# Altium schematic symbol library FPGA_Xilinx.SchLib: 34 symbols (part 2 of 2)
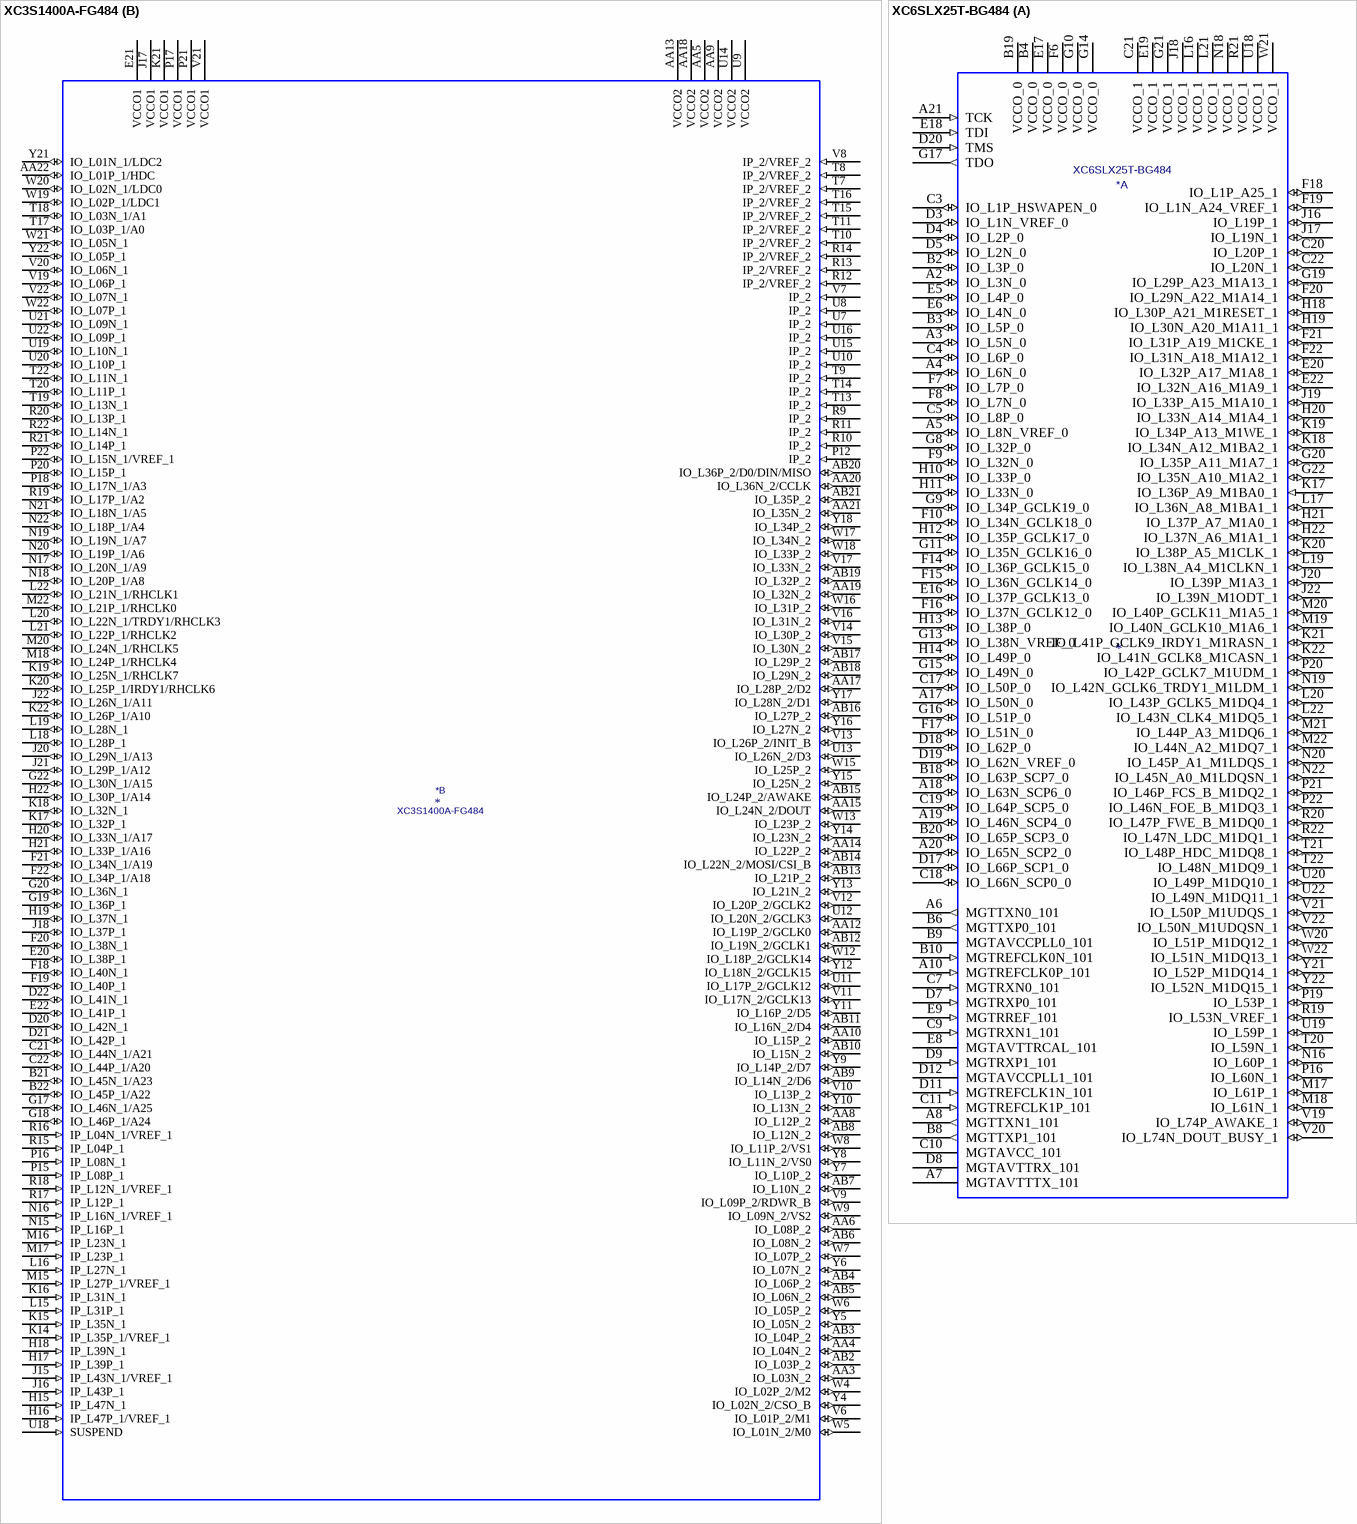
[diagram p12: symbols XC3S1400A-FG484 to XC6SLX25T-BG484]

## XC3S1400A-FG484
designator *  value XC3S1400A-FG484
ki_fp_filters: BGA484
part A pins: A1 GND (power), A2 IO_L36N_0/PUDC_B (io), A3 IO_L33P_0 (io), A4 IO_L31P_0 (io), A5 IO_L28N_0 (io), A6 IO_L26N_0 (io), A7 IO_L26P_0 (io), A8 IO_L22N_0 (io), A9 IO_L22P_0 (io), A10 IO_L21P_0 (io), A11 IO_L18N_0/GCLK7 (io), A12 IO_L18P_0/GCLK6 (io), A13 IO_L16N_0 (io), A14 IO_L13N_0 (io), A15 IO_L12N_0/VREF_0 (io), A16 IO_L12P_0 (io), A17 IO_L10N_0 (io), A18 IO_L05N_0 (io), A19 IO_L06N_0 (io), A20 IO_L03N_0 (io), A21 TCK (in), A22 GND (power), AA1 IO_L45P_3 (io), AA2 IO_L45N_3 (io), AA7 GND (power), AA11 GND (power), AA16 GND (power), AB1 GND (power), AB22 GND (power), B1 IO_L02P_3 (io), B2 IO_L36P_0/VREF_0 (io), B3 IO_L33N_0 (io), B4 IO_L31N_0 (io), B5 VCCO0 (power), B6 IO_L28P_0 (io), B7 GND (power), B8 IO_L25P_0 (io), B9 IO_L24P_0 (io), B10 VCCO0 (power), B11 IO_L19P_0/GCLK8 (io), B12 GND (power), B13 IO_L16P_0 (io), B14 VCCO0 (power), B15 IO_L13P_0 (io), B16 GND (power), B17 IO_L10P_0 (io), B18 VCCO0 (power), B19 IO_L06P_0/VREF_0 (io), B20 IO_L03P_0 (io), C1 IO_L01P_3 (io), C2 IO_L02N_3 (io), C3 GND (power), C4 PROG_B (io), C5 IO_L32P_0 (io), C6 IO_L29P_0 (io), C7 IO_L27N_0 (io), C8 IO_L25N_0 (io), C9 IO_L24N_0/VREF_0 (io), C10 IO_L21N_0 (io), C11 IO_L19N_0/GCLK9 (io), C12 IO_L17P_0/GCLK4 (io), C13 IO_L15N_0 (io), C14 IO_L09P_0 (io), C15 IO_L11N_0 (io), C16 IO_L08N_0 (io), C17 IO_L07N_0 (io), C18 IO_L05P_0 (io), C19 IO_L02N_0 (io), C20 GND (power), D1 IO_L06P_3 (io), D2 IO_L01N_3 (io), D3 IO_L03P_3 (io), D4 TMS (in), D5 IO_L32N_0 (io), D6 IO_L29N_0 (io), D7 IO_L27P_0 (io), D8 IO_L30N_0 (io), D9 GND (power), D10 IO_L23P_0 (io), D11 IO_L20P_0/GCLK10 (io), D12 VCCAUX (power), D13 IO_L15P_0 (io), D14 GND (power), D15 IO_L11P_0 (io), D16 IO_L08P_0 (io), D17 IO_L07P_0 (io), D18 IO_L01N_0 (io), D19 IO_L02P_0/VREF_0 (io), E1 IO_L06N_3 (io), E2 VCCO3, E3 IO_L07N_3 (io), E4 IO_L03N_3 (io), E5 VCCAUX (power), E6 IO_L35N_0 (io), E7 IO_L34P_0 (io), E8 IP_0 (in), E9 IO_L30P_0 (io), E10 IO_L23N_0 (io), E11 IO_L20N_0/GCLK11 (io), E12 IO_L17N_0/GCLK5 (io), E13 IO_L14N_0 (io), E14 IO_L09N_0 (io), E15 IO_L04P_0 (io), E16 IP_0 (in), E17 IO_L01P_0 (io), E18 VCCAUX (power), E19 TDO (out), F1 IO_L12N_3 (io), F2 IO_L12P_3 (io), F3 IO_L08P_3 (io), F4 IO_L07P_3 (io), F5 TDI (in), F6 GND (power), F7 IO_L35P_0 (io), F8 IO-L34N_0 (io), F9 VCCO0 (power), F10 IP_0 (in), F11 GND (power), F12 IP_0 (in), F13 IO_L14P_0 (io), F14 VCCO0 (power), F15 IO_L04N_0 (io), F16 IP_0 (in), F17 GND (power), G1 IO_L13N_3 (io), G2 GND (power), G3 IO_L13P_3 (io), G4 IO_L08N_3 (io), G5 IO_L05N_3 (io), G6 IO_L05P_3 (io), G7 IP_0 (in), G8 IP_0/VREF_0 (in), G9 IP_0 (in), G10 IP_0 (in), G11 IP_0 (in), G12 IP_0 (in), G13 IP_0 (in), G14 IP_0 (in), G15 IP_0 (in), G16 IP_0 (in), G21 GND (power), H1 IO_L16N_3 (io), H2 IO_L16P_3 (io), H3 IO_L14N_3 (io), H4 IO_L14P_3 (io), H5 IO_L09P_3 (io), H6 IO_L09N_3 (io), H7 IP_L04N_3/VREF_3 (in), H8 IP_L04P_3 (in), H9 IP_0/VREF_0 (in), H10 IP_0 (in), H11 VCCAUX (power), H12 IP_0/VREF_0 (in), H13 IP_0 (in), H14 IP_0 (in), J1 IO_L17N_3/VREF_3 (io), J2 VCCO3 (power), J3 IO_L17P_3 (io), J4 GND (power), J5 IO_L10N_3 (io), J6 VCCO3 (power), J7 IP_L11P_3 (in), J8 IP_3/VREF_3 (in), J9 GND (power), J10 VCCINT (power), J11 GND (power), J12 VCCINT (power), J13 GND (power), J14 GND (power), J19 GND (power), K1 IO_L22P_3/LHCLK2 (io), K2 IO_L20N_3 (io), K3 IO_L20P_3 (io), K4 IO_L18N_3 (io), K5 IO_L18P_3 (io), K6 IO_L10P_3 (io), K7 IP_L15P_3 (in), K8 IP_L11N_3 (in), K9 VCCINT (power), K10 GND (power), K11 VCCINT (power), K12 GND (power), K13 VCCINT (power), L1 IO_L22N_3/IRDY2/LHCLK3 (io), L2 GND (power), L3 IO_L21N_3/LHCLK1 (io), L4 VCCAUX (power), L5 IO_L21P_3/LHCLK0 (io), L6 GND (power), L7 IP_L19P_3 (in), L8 IP_L15N_3/VREF_3 (in), L9 GND (power), L10 VCCINT (power), L11 GND (power), L12 VCCINT (power), L13 GND (power), L14 VCCINT (power), L17 GND (power), M1 IO_L24P_3/LHCLK4 (io), M2 IO_L24N_3/LHCLK5 (io), M3 IO_L25P_3/TRDY2/LHCLK6 (io), M4 IO_L25N_3/LHCLK7 (io), M5 IO_L30P_3 (io), M6 IP_L23N_3 (in), M7 IP_L23P_3 (in), M8 IP_L19N_3 (in), M9 VCCINT (power), M10 GND (power), M11 VCCINT, M12 GND (power), M13 VCCINT (power), M14 GND (power), M19 VCCAUX (power), M21 GND (power), N1 IO_L26P_3/VREF_3 (io), N2 VCCO3 (power), N3 IO_L26N_3 (io), N4 IO_L30N_3 (io), N5 IP_L31N_3 (in), N6 IP_L31P_3 (in), N7 IP_L35P_3 (in), N8 IP_L27P_3 (in), N9 IP_L27N_3 (in), N10 VCCINT (power), N11 GND (power), N12 VCCINT (power), N13 GND (power), N14 VCCINT (power), P1 IO_L28P_3 (io), P2 IO_L28N_3 (io), P3 IO_L29P_3 (io), P4 GND (power), P5 IO_L29N_3 (io), P6 VCCO3 (power), P7 IP_L39P_3 (in), P8 IP_L35N_3 (in), P9 GND (power), P10 GND (power), P11 VCCAUX (power), P13 VCCINT (power), P14 GND (power), P19 GND (power), R1 IO_L32P_3 (io), R2 IO_L32N_3 (io), R3 IO_L33P_3 (io), R4 IO_L33N_3 (io), R5 IO_L34P_3 (io), R6 IP_3/VREF_3 (in), R7 IP_L46P_3 (in), R8 IP_L39N_3 (in), T1 IO_L36P_3/VREF_3 (in), T2 GND (power), T3 IO_L36N_3 (io), T4 IO_L34N_3 (io), T5 IO_L40P_3 (io), T6 IP_L46N_3/VREF_3 (in), T12 GND (power), T21 GND (power), U1 IO_L37P_3 (io), U2 IO_L37N_3 (io), U3 IO_L41P_3 (io), U4 IO_L41N_3 (io), U5 IO_L40N_3 (io), U6 GND (power), U17 GND (power), V1 IO_L38P_3 (io), V2 VCCO3 (power), V3 IO_L38N_3 (io), V4 IO_L43P_3 (io), V5 VCCAUX (power), V18 VCCAUX (power), W1 IO_L42P_3 (io), W2 IO_L42N_3 (io), W3 IO_L43N_3 (io), W10 GND (power), W11 VCCAUX (power), W14 GND (power), Y1 IO_L44P_3 (io), Y2 IO_L44N_3 (io), Y3 GND (power), Y19 DONE (io), Y20 GND (power)
part B pins: AA3 IO_L03N_2 (io), AA4 IO_L04N_2 (io), AA5 VCCO2 (power), AA6 IO_L08P_2 (io), AA8 IO_L12P_2 (io), AA9 VCCO2 (power), AA10 IO_L15P_2 (io), AA12 IO_L19P_2/GCLK0 (io), AA13 VCCO2 (power), AA14 IO_L22P_2 (io), AA15 IO_L24N_2/DOUT (io), AA17 IO_L28P_2/D2 (io), AA18 VCCO2 (power), AA19 IO_L32N_2 (io), AA20 IO_L36N_2/CCLK (io), AA21 IO_L35N_2 (io), AA22 IO_L01P_1/HDC (io), AB2 IO_L03P_2 (io), AB3 IO_L04P_2 (io), AB4 IO_L06P_2 (io), AB5 IO_L06N_2 (io), AB6 IO_L08N_2 (io), AB7 IO_L10N_2 (io), AB8 IO_L12N_2 (io), AB9 IO_L14N_2/D6 (io), AB10 IO_L15N_2 (io), AB11 IO_L16N_2/D4 (io), AB12 IO_L19N_2/GCLK1 (io), AB13 IO_L21P_2 (io), AB14 IO_L22N_2/MOSI/CSI_B (io), AB15 IO_L24P_2/AWAKE (io), AB16 IO_L27P_2 (io), AB17 IO_L29P_2 (io), AB18 IO_L29N_2 (io), AB19 IO_L32P_2 (io), AB20 IO_L36P_2/D0/DIN/MISO (io), AB21 IO_L35P_2 (io), B21 IO_L45N_1/A23 (io), B22 IO_L45P_1/A22 (io), C21 IO_L44N_1/A21 (io), C22 IO_L44P_1/A20 (io), D20 IO_L42N_1 (io), D21 IO_L42P_1 (io), D22 IO_L41N_1 (io), E20 IO_L38P_1 (io), E21 VCCO1 (power), E22 IO_L41P_1 (io), F18 IO_L40N_1 (io), F19 IO_L40P_1 (io), F20 IO_L38N_1 (io), F21 IO_L34N_1/A19 (io), F22 IO_L34P_1/A18 (io), G17 IO_L46N_1/A25 (io), G18 IO_L46P_1/A24 (io), G19 IO_L36P_1 (io), G20 IO_L36N_1 (io), G22 IO_L30N_1/A15 (io), H15 IP_L47N_1 (in), H16 IP_L47P_1/VREF_1 (in), H17 IP_L39P_1 (in), H18 IP_L39N_1 (in), H19 IO_L37N_1 (io), H20 IO_L33N_1/A17 (io), H21 IO_L33P_1/A16 (io), H22 IO_L30P_1/A14 (io), J15 IP_L43N_1/VREF_1 (in), J16 IP_L43P_1 (in), J17 VCCO1 (power), J18 IO_L37P_1 (io), J20 IO_L29N_1/A13 (io), J21 IO_L29P_1/A12 (io), J22 IO_L26N_1/A11 (io), K14 IP_L35P_1/VREF_1 (in), K15 IP_L35N_1 (in), K16 IP_L31N_1 (in), K17 IO_L32P_1 (io), K18 IO_L32N_1 (io), K19 IO_L25N_1/RHCLK7 (io), K20 IO_L25P_1/IRDY1/RHCLK6 (io), K21 VCCO1 (power), K22 IO_L26P_1/A10 (io), L15 IP_L31P_1 (in), L16 IP_L27N_1 (in), L18 IO_L28P_1 (io), L19 IO_L28N_1 (io), L20 IO_L22N_1/TRDY1/RHCLK3 (io), L21 IO_L22P_1/RHCLK2 (io), L22 IO_L21N_1/RHCLK1 (io), M15 IP_L27P_1/VREF_1 (in), M16 IP_L23N_1 (in), M17 IP_L23P_1 (in), M18 IO_L24P_1/RHCLK4 (io), M20 IO_L24N_1/RHCLK5 (io), M22 IO_L21P_1/RHCLK0 (io), N15 IP_L16P_1 (in), N16 IP_L16N_1/VREF_1 (in), N17 IO_L20N_1/A9 (io), N18 IO_L20P_1/A8 (io), N19 IO_L19N_1/A7 (io), N20 IO_L19P_1/A6 (io), N21 IO_L18N_1/A5 (io), N22 IO_L18P_1/A4 (io), P12 IP_2 (in), P15 IP_L08P_1 (in), P16 IP_L08N_1 (in), P17 VCCO1 (power), P18 IO_L17N_1/A3 (io), P20 IO_L15P_1 (io), P21 VCCO1 (power), P22 IO_L15N_1/VREF_1 (io), R9 IP_2 (in), R10 IP_2 (in), R11 IP_2 (in), R12 IP_2/VREF_2 (in), R13 IP_2/VREF_2 (in), R14 IP_2/VREF_2 (in), R15 IP_L04P_1 (in), R16 IP_L04N_1/VREF_1 (in), R17 IP_L12P_1 (in), R18 IP_L12N_1/VREF_1 (in), R19 IO_L17P_1/A2 (io), R20 IO_L13P_1 (io), R21 IO_L14P_1 (io), R22 IO_L14N_1 (io), T7 IP_2/VREF_2 (in), T8 IP_2/VREF_2 (in), T9 IP_2 (in), T10 IP_2/VREF_2 (in), T11 IP_2/VREF_2 (in), T13 IP_2 (in), T14 IP_2 (in), T15 IP_2/VREF_2 (in), T16 IP_2/VREF_2 (in), T17 IO_L03P_1/A0 (io), T18 IO_L03N_1/A1 (io), T19 IO_L13N_1 (io), T20 IO_L11P_1 (io), T22 IO_L11N_1 (io), U7 IP_2 (in), U8 IP_2 (in), U9 VCCO2 (power), U10 IP_2 (in), U11 IO_L17P_2/GCLK12 (io), U12 IO_L20N_2/GCLK3 (io), U13 IO_L26N_2/D3 (io), U14 VCCO2, U15 IP_2 (in), U16 IP_2 (in), U18 SUSPEND (in), U19 IO_L10N_1 (io), U20 IO_L10P_1 (io), U21 IO_L09N_1 (io), U22 IO_L09P_1 (io), V6 IO_L01P_2/M1 (io), V7 IP_2 (in), V8 IP_2/VREF_2 (in), V9 IO_L09P_2/RDWR_B (io), V10 IO_L13P_2 (io), V11 IO_L17N_2/GCLK13 (io), V12 IO_L20P_2/GCLK2 (io), V13 IO_L26P_2/INIT_B (io), V14 IO_L30P_2 (io), V15 IO_L30N_2 (io), V16 IO_L31N_2 (io), V17 IO_L33N_2 (io), V19 IO_L06P_1 (io), V20 IO_L06N_1 (io), V21 VCCO1 (power), V22 IO_L07N_1 (io), W4 IO_L02P_2/M2 (io), W5 IO_L01N_2/M0 (io), W6 IO_L05P_2 (io), W7 IO_L07P_2 (io), W8 IO_L11P_2/VS1 (io), W9 IO_L09N_2/VS2 (io), W12 IO_L18P_2/GCLK14 (io), W13 IO_L23P_2 (io), W15 IO_L25P_2 (io), W16 IO_L31P_2 (io), W17 IO_L34N_2 (io), W18 IO_L33P_2 (io), W19 IO_L02P_1/LDC1 (io), W20 IO_L02N_1/LDC0 (io), W21 IO_L05N_1 (io), W22 IO_L07P_1 (io), Y4 IO_L02N_2/CSO_B (io), Y5 IO_L05N_2 (io), Y6 IO_L07N_2 (io), Y7 IO_L10P_2 (io), Y8 IO_L11N_2/VS0 (io), Y9 IO_L14P_2/D7 (io), Y10 IO_L13N_2 (io), Y11 IO_L16P_2/D5 (io), Y12 IO_L18N_2/GCLK15 (io), Y13 IO_L21N_2 (io), Y14 IO_L23N_2 (io), Y15 IO_L25N_2 (io), Y16 IO_L27N_2 (io), Y17 IO_L28N_2/D1 (io), Y18 IO_L34P_2 (io), Y21 IO_L01N_1/LDC2 (io), Y22 IO_L05P_1 (io)

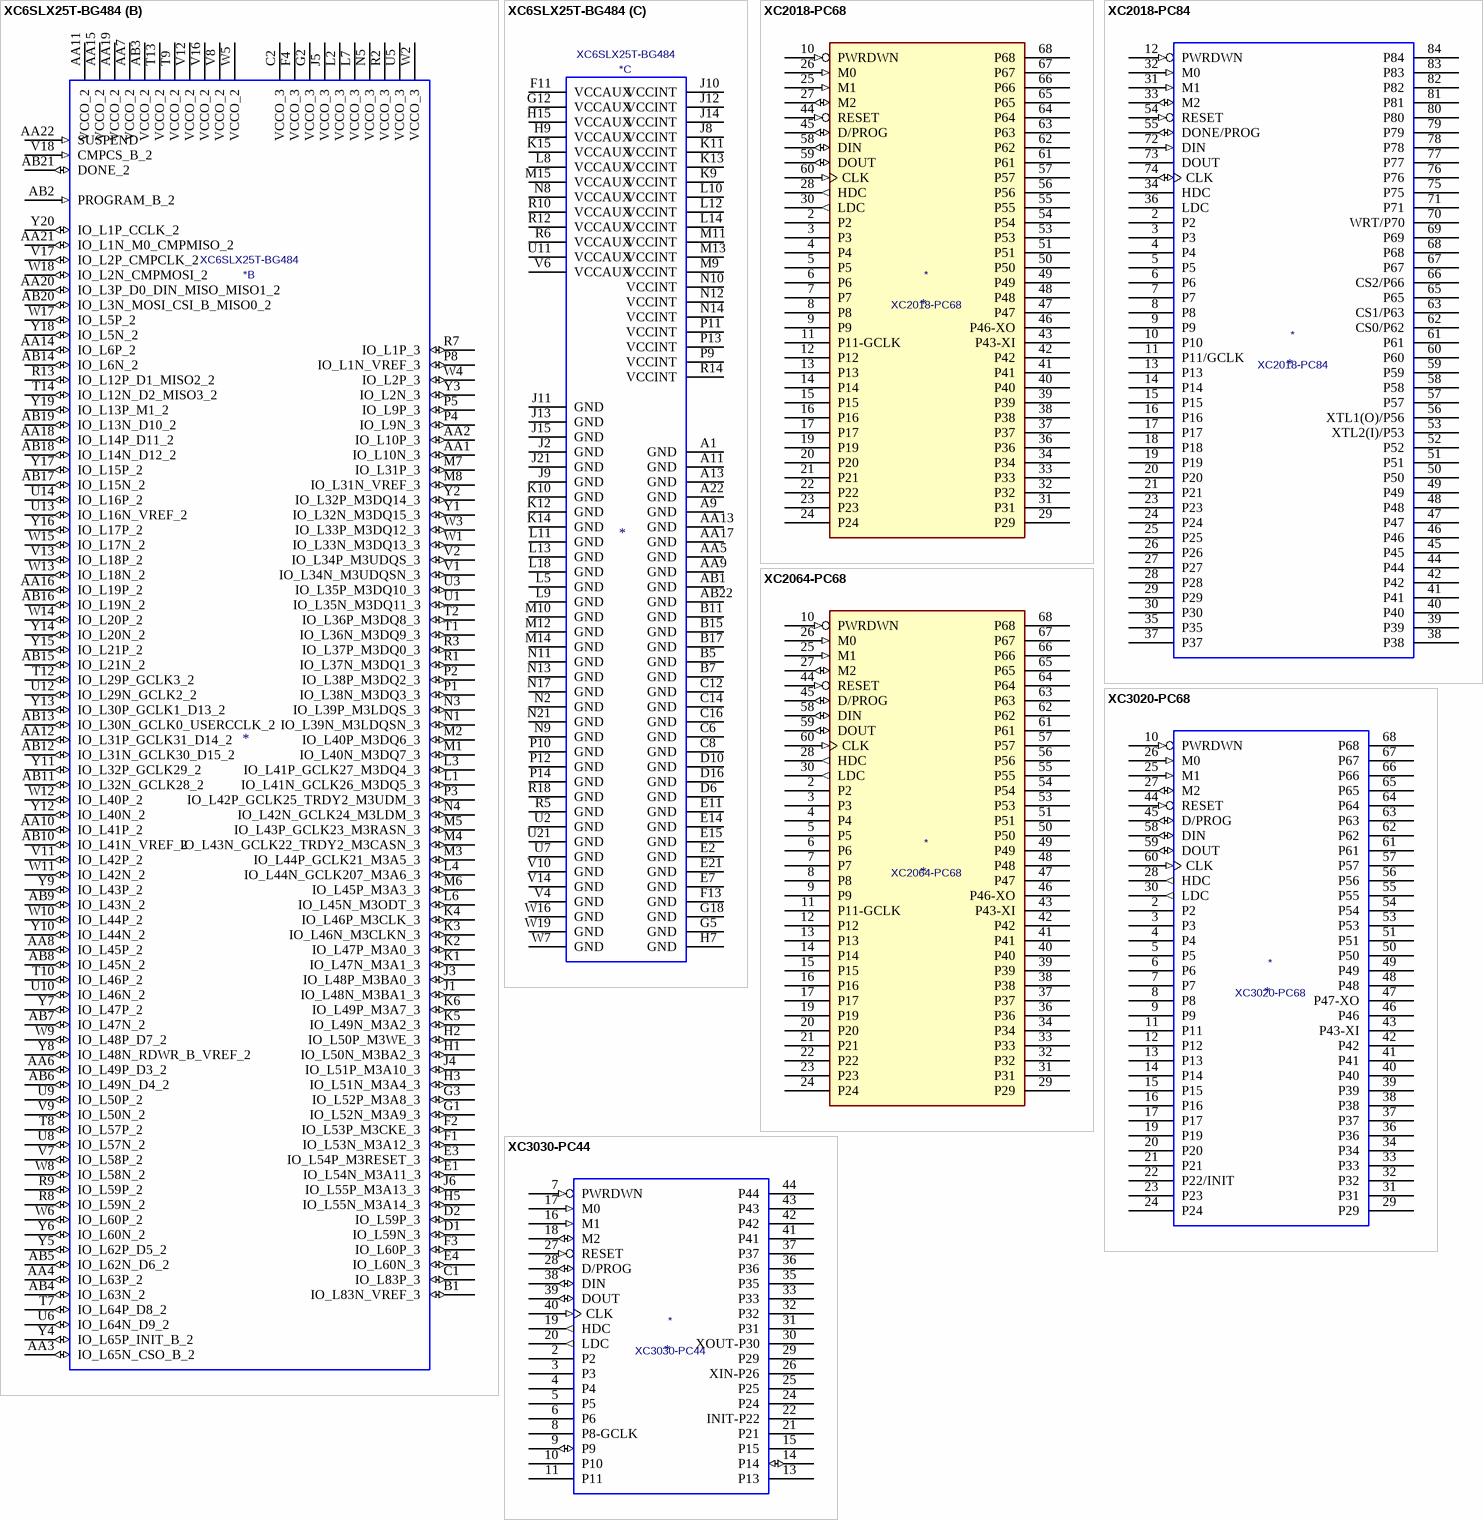
[diagram p8: symbols XC6SLX25T-BG484 to XC3030-PC44]

## XC6SLX25T-BG484
designator *  value XC6SLX25T-BG484
ki_description: SPARTAN-6  FG484
part A pins: A2 IO_L3N_0 (io), A3 IO_L5N_0 (io), A4 IO_L6N_0 (io), A5 IO_L8N_VREF_0 (io), A6 MGTTXN0_101 (out), A7 MGTAVTTTX_101, A8 MGTTXN1_101 (out), A10 MGTREFCLK0P_101 (in), A17 IO_L50N_0 (io), A18 IO_L63N_SCP6_0 (io), A19 IO_L46N_SCP4_0 (io), A20 IO_L65N_SCP2_0 (io), A21 TCK (in), B2 IO_L3P_0 (io), B3 IO_L5P_0 (io), B4 VCCO_0 (power), B6 MGTTXP0_101 (out), B8 MGTTXP1_101 (out), B9 MGTAVCCPLL0_101, B10 MGTREFCLK0N_101 (in), B18 IO_L63P_SCP7_0 (io), B19 VCCO_0 (power), B20 IO_L65P_SCP3_0 (io), C3 IO_L1P_HSWAPEN_0 (io), C4 IO_L6P_0 (io), C5 IO_L8P_0 (io), C7 MGTRXN0_101 (in), C9 MGTRXN1_101 (in), C10 MGTAVCC_101, C11 MGTREFCLK1P_101 (in), C17 IO_L50P_0 (io), C18 IO_L66N_SCP0_0 (io), C19 IO_L64P_SCP5_0 (io), C20 IO_L20P_1 (io), C21 VCCO_1 (power), C22 IO_L20N_1 (io), D3 IO_L1N_VREF_0 (io), D4 IO_L2P_0 (io), D5 IO_L2N_0 (io), D7 MGTRXP0_101 (in), D8 MGTAVTTRX_101, D9 MGTRXP1_101 (in), D11 MGTREFCLK1N_101 (in), D12 MGTAVCCPLL1_101, D17 IO_L66P_SCP1_0 (io), D18 IO_L62P_0 (io), D19 IO_L62N_VREF_0 (io), D20 TMS (in), E5 IO_L4P_0 (io), E6 IO_L4N_0 (io), E8 MGTAVTTRCAL_101, E9 MGTRREF_101 (in), E16 IO_L37P_GCLK13_0 (io), E17 VCCO_0 (power), E18 TDI (in), E19 VCCO_1 (power), E20 IO_L32P_A17_M1A8_1 (io), E22 IO_L32N_A16_M1A9_1 (io), F6 VCCO_0 (power), F7 IO_L7P_0 (io), F8 IO_L7N_0 (io), F9 IO_L32N_0 (io), F10 IO_L34N_GCLK18_0 (io), F14 IO_L36P_GCLK15_0 (io), F15 IO_L36N_GCLK14_0 (io), F16 IO_L37N_GCLK12_0 (io), F17 IO_L51N_0 (io), F18 IO_L1P_A25_1 (io), F19 IO_L1N_A24_VREF_1 (io), F20 IO_L29N_A22_M1A14_1 (io), F21 IO_L31P_A19_M1CKE_1 (io), F22 IO_L31N_A18_M1A12_1 (io), G8 IO_L32P_0 (io), G9 IO_L34P_GCLK19_0 (io), G10 VCCO_0 (power), G11 IO_L35N_GCLK16_0 (io), G13 IO_L38N_VREF_0 (io), G14 VCCO_0 (power), G15 IO_L49N_0 (io), G16 IO_L51P_0 (io), G17 TDO (out), G19 IO_L29P_A23_M1A13_1 (io), G20 IO_L35P_A11_M1A7_1 (io), G21 VCCO_1 (power), G22 IO_L35N_A10_M1A2_1 (io), H10 IO_L33P_0 (io), H11 IO_L33N_0 (io), H12 IO_L35P_GCLK17_0 (io), H13 IO_L38P_0 (io), H14 IO_L49P_0 (io), H18 IO_L30P_A21_M1RESET_1 (io), H19 IO_L30N_A20_M1A11_1 (io), H20 IO_L33N_A14_M1A4_1 (io), H21 IO_L37P_A7_M1A0_1 (io), H22 IO_L37N_A6_M1A1_1 (io), J16 IO_L19P_1 (io), J17 IO_L19N_1 (io), J18 VCCO_1 (power), J19 IO_L33P_A15_M1A10_1 (io), J20 IO_L39P_M1A3_1 (io), J22 IO_L39N_M1ODT_1 (io), K17 IO_L36P_A9_M1BA0_1 (in), K18 IO_L34N_A12_M1BA2_1 (io), K19 IO_L34P_A13_M1WE_1 (io), K20 IO_L38P_A5_M1CLK_1 (io), K21 IO_L41P_GCLK9_IRDY1_M1RASN_1 (io), K22 IO_L41N_GCLK8_M1CASN_1 (io), L16 VCCO_1 (power), L17 IO_L36N_A8_M1BA1_1 (io), L19 IO_L38N_A4_M1CLKN_1 (io), L20 IO_L43P_GCLK5_M1DQ4_1 (io), L21 VCCO_1 (power), L22 IO_L43N_CLK4_M1DQ5_1 (io), M17 IO_L61P_1 (io), M18 IO_L61N_1 (io), M19 IO_L40N_GCLK10_M1A6_1 (io), M20 IO_L40P_GCLK11_M1A5_1 (io), M21 IO_L44P_A3_M1DQ6_1 (io), M22 IO_L44N_A2_M1DQ7_1 (io), N16 IO_L60P_1 (io), N18 VCCO_1 (power), N19 IO_L42N_GCLK6_TRDY1_M1LDM_1 (io), N20 IO_L45P_A1_M1LDQS_1 (io), N22 IO_L45N_A0_M1LDQSN_1 (io), P16 IO_L60N_1 (io), P19 IO_L53P_1 (io), P20 IO_L42P_GCLK7_M1UDM_1 (io), P21 IO_L46P_FCS_B_M1DQ2_1 (io), P22 IO_L46N_FOE_B_M1DQ3_1 (io), R19 IO_L53N_VREF_1 (io), R20 IO_L47P_FWE_B_M1DQ0_1 (io), R21 VCCO_1 (power), R22 IO_L47N_LDC_M1DQ1_1 (io), T20 IO_L59N_1 (io), T21 IO_L48P_HDC_M1DQ8_1 (io), T22 IO_L48N_M1DQ9_1 (io), U18 VCCO_1 (power), U19 IO_L59P_1 (io), U20 IO_L49P_M1DQ10_1 (io), U22 IO_L49N_M1DQ11_1 (io), V19 IO_L74P_AWAKE_1 (io), V20 IO_L74N_DOUT_BUSY_1 (io), V21 IO_L50P_M1UDQS_1 (io), V22 IO_L50N_M1UDQSN_1 (io), W20 IO_L51P_M1DQ12_1 (io), W21 VCCO_1 (power), W22 IO_L51N_M1DQ13_1 (io), Y21 IO_L52P_M1DQ14_1 (io), Y22 IO_L52N_M1DQ15_1 (io)
part B pins: AA1 IO_L10N_3 (io), AA2 IO_L10P_3 (io), AA3 IO_L65N_CSO_B_2 (io), AA4 IO_L63P_2 (io), AA6 IO_L49P_D3_2 (io), AA7 VCCO_2 (power), AA8 IO_L45P_2 (io), AA10 IO_L41P_2 (io), AA11 VCCO_2 (power), AA12 IO_L31P_GCLK31_D14_2 (io), AA14 IO_L6P_2 (io), AA15 VCCO_2 (power), AA16 IO_L19P_2 (io), AA18 IO_L14P_D11_2 (io), AA19 VCCO_2 (power), AA20 IO_L3P_D0_DIN_MISO_MISO1_2 (io), AA21 IO_L1N_M0_CMPMISO_2 (io), AA22 SUSPEND (in), AB2 PROGRAM_B_2 (in), AB3 VCCO_2 (power), AB4 IO_L63N_2 (io), AB5 IO_L62N_D6_2 (io), AB6 IO_L49N_D4_2 (io), AB7 IO_L47N_2 (io), AB8 IO_L45N_2 (io), AB9 IO_L43N_2 (io), AB10 IO_L41N_VREF_2 (io), AB11 IO_L32N_GCLK28_2 (io), AB12 IO_L31N_GCLK30_D15_2 (io), AB13 IO_L30N_GCLK0_USERCCLK_2 (io), AB14 IO_L6N_2 (io), AB15 IO_L21N_2 (io), AB16 IO_L19N_2 (io), AB17 IO_L15N_2 (io), AB18 IO_L14N_D12_2 (io), AB19 IO_L13N_D10_2 (io), AB20 IO_L3N_MOSI_CSI_B_MISO0_2 (io), AB21 DONE_2 (io), B1 IO_L83N_VREF_3 (io), C1 IO_L83P_3 (io), C2 VCCO_3 (power), D1 IO_L59N_3 (io), D2 IO_L59P_3 (io), E1 IO_L54N_M3A11_3 (io), E3 IO_L54P_M3RESET_3 (io), E4 IO_L60N_3 (io), F1 IO_L53N_M3A12_3 (io), F2 IO_L53P_M3CKE_3 (io), F3 IO_L60P_3 (io), F4 VCCO_3 (power), G1 IO_L52N_M3A9_3 (io), G2 VCCO_3 (power), G3 IO_L52P_M3A8_3 (io), H1 IO_L50N_M3BA2_3 (io), H2 IO_L50P_M3WE_3 (io), H3 IO_L51N_M3A4_3 (io), H5 IO_L55N_M3A14_3 (io), J1 IO_L48N_M3BA1_3 (io), J3 IO_L48P_M3BA0_3 (io), J4 IO_L51P_M3A10_3 (io), J5 VCCO_3 (power), J6 IO_L55P_M3A13_3 (io), K1 IO_L47N_M3A1_3 (io), K2 IO_L47P_M3A0_3 (io), K3 IO_L46N_M3CLKN_3 (io), K4 IO_L46P_M3CLK_3 (io), K5 IO_L49N_M3A2_3 (io), K6 IO_L49P_M3A7_3 (io), L1 IO_L41N_GCLK26_M3DQ5_3 (io), L2 VCCO_3 (power), L3 IO_L41P_GCLK27_M3DQ4_3 (io), L4 IO_L44N_GCLK207_M3A6_3 (io), L6 IO_L45N_M3ODT_3 (io), L7 VCCO_3 (power), M1 IO_L40N_M3DQ7_3 (io), M2 IO_L40P_M3DQ6_3 (io), M3 IO_L44P_GCLK21_M3A5_3 (io), M4 IO_L43N_GCLK22_TRDY2_M3CASN_3 (io), M5 IO_L43P_GCLK23_M3RASN_3 (io), M6 IO_L45P_M3A3_3 (io), M7 IO_L31P_3 (io), M8 IO_L31N_VREF_3 (io), N1 IO_L39N_M3LDQSN_3 (io), N3 IO_L39P_M3LDQS_3 (io), N4 IO_L42N_GCLK24_M3LDM_3 (io), N5 VCCO_3 (power), P1 IO_L38N_M3DQ3_3 (io), P2 IO_L38P_M3DQ2_3 (io), P3 IO_L42P_GCLK25_TRDY2_M3UDM_3 (io), P4 IO_L9N_3 (io), P5 IO_L9P_3 (io), P8 IO_L1N_VREF_3 (io), R1 IO_L37N_M3DQ1_3 (io), R2 VCCO_3 (power), R3 IO_L37P_M3DQ0_3 (io), R7 IO_L1P_3 (io), R8 IO_L59N_2 (io), R9 IO_L59P_2 (io), R13 IO_L12P_D1_MISO2_2 (io), T1 IO_L36N_M3DQ9_3 (io), T2 IO_L36P_M3DQ8_3 (io), T7 IO_L64P_D8_2 (io), T8 IO_L57P_2 (io), T9 VCCO_2 (power), T10 IO_L46P_2 (io), T12 IO_L29P_GCLK3_2 (io), T13 VCCO_2 (power), T14 IO_L12N_D2_MISO3_2 (io), U1 IO_L35N_M3DQ11_3 (io), U3 IO_L35P_M3DQ10_3 (io), U5 VCCO_3 (power), U6 IO_L64N_D9_2 (io), U8 IO_L57N_2 (io), U9 IO_L50P_2 (io), U10 IO_L46N_2 (io), U12 IO_L29N_GCLK2_2 (io), U13 IO_L16N_VREF_2 (io), U14 IO_L16P_2 (io), V1 IO_L34N_M3UDQSN_3 (io), V2 IO_L34P_M3UDQS_3 (io), V7 IO_L58P_2 (io), V8 VCCO_2 (power), V9 IO_L50N_2 (io), V11 IO_L42P_2 (io), V12 VCCO_2 (power), V13 IO_L18P_2 (io), V16 VCCO_2 (power), V17 IO_L2P_CMPCLK_2 (io), V18 CMPCS_B_2 (in), W1 IO_L33N_M3DQ13_3 (io), W2 VCCO_3 (power), W3 IO_L33P_M3DQ12_3 (io), W4 IO_L2P_3 (io), W5 VCCO_2 (power), W6 IO_L60P_2 (io), W8 IO_L58N_2 (io), W9 IO_L48P_D7_2 (io), W10 IO_L44P_2 (io), W11 IO_L42N_2 (io), W12 IO_L40P_2 (io), W13 IO_L18N_2 (io), W14 IO_L20P_2 (io), W15 IO_L17N_2 (io), W17 IO_L5P_2 (io), W18 IO_L2N_CMPMOSI_2 (io), Y1 IO_L32N_M3DQ15_3 (io), Y2 IO_L32P_M3DQ14_3 (io), Y3 IO_L2N_3 (io), Y4 IO_L65P_INIT_B_2 (io), Y5 IO_L62P_D5_2 (io), Y6 IO_L60N_2 (io), Y7 IO_L47P_2 (io), Y8 IO_L48N_RDWR_B_VREF_2 (io), Y9 IO_L43P_2 (io), Y10 IO_L44N_2 (io), Y11 IO_L32P_GCLK29_2 (io), Y12 IO_L40N_2 (io), Y13 IO_L30P_GCLK1_D13_2 (io), Y14 IO_L20N_2 (io), Y15 IO_L21P_2 (io), Y16 IO_L17P_2 (io), Y17 IO_L15P_2 (io), Y18 IO_L5N_2 (io), Y19 IO_L13P_M1_2 (io), Y20 IO_L1P_CCLK_2 (io)
part C pins: A1 GND (power), A9 GND (power), A11 GND (power), A13 GND (power), A22 GND (power), AA5 GND (power), AA9 GND (power), AA13 GND (power), AA17 GND (power), AB1 GND (power), AB22 GND (power), B5 GND (power), B7 GND (power), B11 GND (power), B15 GND (power), B17 GND (power), C6 GND (power), C8 GND (power), C12 GND (power), C14 GND (power), C16 GND (power), D6 GND (power), D10 GND (power), D16 GND (power), E2 GND (power), E7 GND (power), E11 GND (power), E14 GND (power), E15 GND (power), E21 GND (power), F11 VCCAUX (power), F13 GND (power), G5 GND (power), G12 VCCAUX (power), G18 GND (power), H7 GND (power), H9 VCCAUX (power), H15 VCCAUX (power), J2 GND (power), J8 VCCINT (power), J9 GND (power), J10 VCCINT (power), J11 GND (power), J12 VCCINT (power), J13 GND (power), J14 VCCINT (power), J15 GND (power), J21 GND (power), K9 VCCINT (power), K10 GND (power), K11 VCCINT (power), K12 GND (power), K13 VCCINT (power), K14 GND (power), K15 VCCAUX (power), L5 GND (power), L8 VCCAUX (power), L9 GND (power), L10 VCCINT (power), L11 GND (power), L12 VCCINT (power), L13 GND (power), L14 VCCINT (power), L18 GND (power), M9 VCCINT (power), M10 GND (power), M11 VCCINT (power), M12 GND (power), M13 VCCINT (power), M14 GND (power), M15 VCCAUX (power), N2 GND (power), N8 VCCAUX (power), N9 GND (power), N10 VCCINT (power), N11 GND (power), N12 VCCINT (power), N13 GND (power), N14 VCCINT (power), N17 GND (power), N21 GND (power), P9 VCCINT (power), P10 GND (power), P11 VCCINT (power), P12 GND (power), P13 VCCINT (power), P14 GND (power), R5 GND (power), R6 VCCAUX (power), R10 VCCAUX (power), R12 VCCAUX (power), R14 VCCINT (power), R18 GND (power), U2 GND (power), U7 GND (power), U11 VCCAUX (power), U21 GND (power), V4 GND (power), V6 VCCAUX (power), V10 GND (power), V14 GND (power), W7 GND (power), W16 GND (power), W19 GND (power)

## XC2018-PC68
designator *  value XC2018-PC68
pins: 1 GND (power) hidden, 2 P2, 3 P3, 4 P4, 5 P5, 6 P6, 7 P7, 8 P8, 9 P9, 10 PWRDWN (in), 11 P11-GCLK, 12 P12, 13 P13, 14 P14, 15 P15, 16 P16, 17 P17, 18 VCC (power) hidden, 19 P19, 20 P20, 21 P21, 22 P22, 23 P23, 24 P24, 25 M1 (in), 26 M0 (in), 27 M2 (io), 28 HDC (out), 29 P29, 30 LDC (out), 31 P31, 32 P32, 33 P33, 34 P34, 35 GND (power) hidden, 36 P36, 37 P37, 38 P38, 39 P39, 40 P40, 41 P41, 42 P42, 43 P43-XI, 44 RESET (in), 45 D/PROG (io), 46 P46-XO, 47 P47, 48 P48, 49 P49, 50 P50, 51 P51, 52 VCC (power) hidden, 53 P53, 54 P54, 55 P55, 56 P56, 57 P57, 58 DIN (io), 59 DOUT (io), 60 CLK (in), 61 P61, 62 P62, 63 P63, 64 P64, 65 P65, 66 P66, 67 P67, 68 P68

## XC2018-PC84
designator *  value XC2018-PC84
pins: 1 GND (power) hidden, 2 P2, 3 P3, 4 P4, 5 P5, 6 P6, 7 P7, 8 P8, 9 P9, 10 P10, 11 P11/GCLK, 12 PWRDWN (in), 13 P13, 14 P14, 15 P15, 16 P16, 17 P17, 18 P18, 19 P19, 20 P20, 21 P21, 22 VCC (power) hidden, 23 P23, 24 P24, 25 P25, 26 P26, 27 P27, 28 P28, 29 P29, 30 P30, 31 M1 (in), 32 M0 (in), 33 M2 (io), 34 HDC, 35 P35, 36 LDC, 37 P37, 38 P38, 39 P39, 40 P40, 41 P41, 42 P42, 43 GND (power) hidden, 44 P44, 45 P45, 46 P46, 47 P47, 48 P48, 49 P49, 50 P50, 51 P51, 52 P52, 53 XTL2(I)/P53, 54 RESET (in), 55 DONE/PROG (io), 56 XTL1(O)/P56, 57 P57, 58 P58, 59 P59, 60 P60, 61 P61, 62 CS0/P62, 63 CS1/P63, 64 VCC (power) hidden, 65 P65, 66 CS2/P66, 67 P67, 68 P68, 69 P69, 70 WRT/P70, 71 P71, 72 DIN (in), 73 DOUT, 74 CLK (io), 75 P75, 76 P76, 77 P77, 78 P78, 79 P79, 80 P80, 81 P81, 82 P82, 83 P83, 84 P84

## XC2064-PC68
designator *  value XC2064-PC68
pins: 1 GND (power) hidden, 2 P2, 3 P3, 4 P4, 5 P5, 6 P6, 7 P7, 8 P8, 9 P9, 10 PWRDWN (in), 11 P11-GCLK, 12 P12, 13 P13, 14 P14, 15 P15, 16 P16, 17 P17, 18 VCC (power) hidden, 19 P19, 20 P20, 21 P21, 22 P22, 23 P23, 24 P24, 25 M1 (in), 26 M0 (in), 27 M2 (io), 28 HDC (out), 29 P29, 30 LDC (out), 31 P31, 32 P32, 33 P33, 34 P34, 35 GND (power) hidden, 36 P36, 37 P37, 38 P38, 39 P39, 40 P40, 41 P41, 42 P42, 43 P43-XI, 44 RESET (in), 45 D/PROG (io), 46 P46-XO, 47 P47, 48 P48, 49 P49, 50 P50, 51 P51, 52 VCC (power) hidden, 53 P53, 54 P54, 55 P55, 56 P56, 57 P57, 58 DIN (io), 59 DOUT (io), 60 CLK (in), 61 P61, 62 P62, 63 P63, 64 P64, 65 P65, 66 P66, 67 P67, 68 P68

## XC3020-PC68
designator *  value XC3020-PC68
pins: 1 GND (power) hidden, 2 P2, 3 P3, 4 P4, 5 P5, 6 P6, 7 P7, 8 P8, 9 P9, 10 PWRDWN (in), 11 P11, 12 P12, 13 P13, 14 P14, 15 P15, 16 P16, 17 P17, 18 VCC (power) hidden, 19 P19, 20 P20, 21 P21, 22 P22/INIT, 23 P23, 24 P24, 25 M1 (in), 26 M0 (in), 27 M2 (io), 28 HDC (out), 29 P29, 30 LDC (out), 31 P31, 32 P32, 33 P33, 34 P34, 35 GND (power) hidden, 36 P36, 37 P37, 38 P38, 39 P39, 40 P40, 41 P41, 42 P42, 43 P43-XI, 44 RESET (in), 45 D/PROG (io), 46 P46, 47 P47-XO, 48 P48, 49 P49, 50 P50, 51 P51, 52 VCC (power) hidden, 53 P53, 54 P54, 55 P55, 56 P56, 57 P57, 58 DIN (io), 59 DOUT (io), 60 CLK (in), 61 P61, 62 P62, 63 P63, 64 P64, 65 P65, 66 P66, 67 P67, 68 P68

## XC3030-PC44
designator *  value XC3030-PC44
pins: 1 GND (power) hidden, 2 P2, 3 P3, 4 P4, 5 P5, 6 P6, 7 PWRDWN (in), 8 P8-GCLK, 9 P9 (io), 10 P10, 11 P11, 12 VCC (power) hidden, 13 P13, 14 P14 (io), 15 P15, 16 M1 (in), 17 M0 (in), 18 M2 (io), 19 HDC (out), 20 LDC (out), 21 P21, 22 INIT-P22, 23 GND (power) hidden, 24 P24, 25 P25, 26 XIN-P26, 27 RESET (in), 28 D/PROG (io), 29 P29, 30 XOUT-P30, 31 P31, 32 P32, 33 P33, 34 VCC (power) hidden, 35 P35, 36 P36, 37 P37, 38 DIN (io), 39 DOUT (io), 40 CLK (in), 41 P41, 42 P42, 43 P43, 44 P44

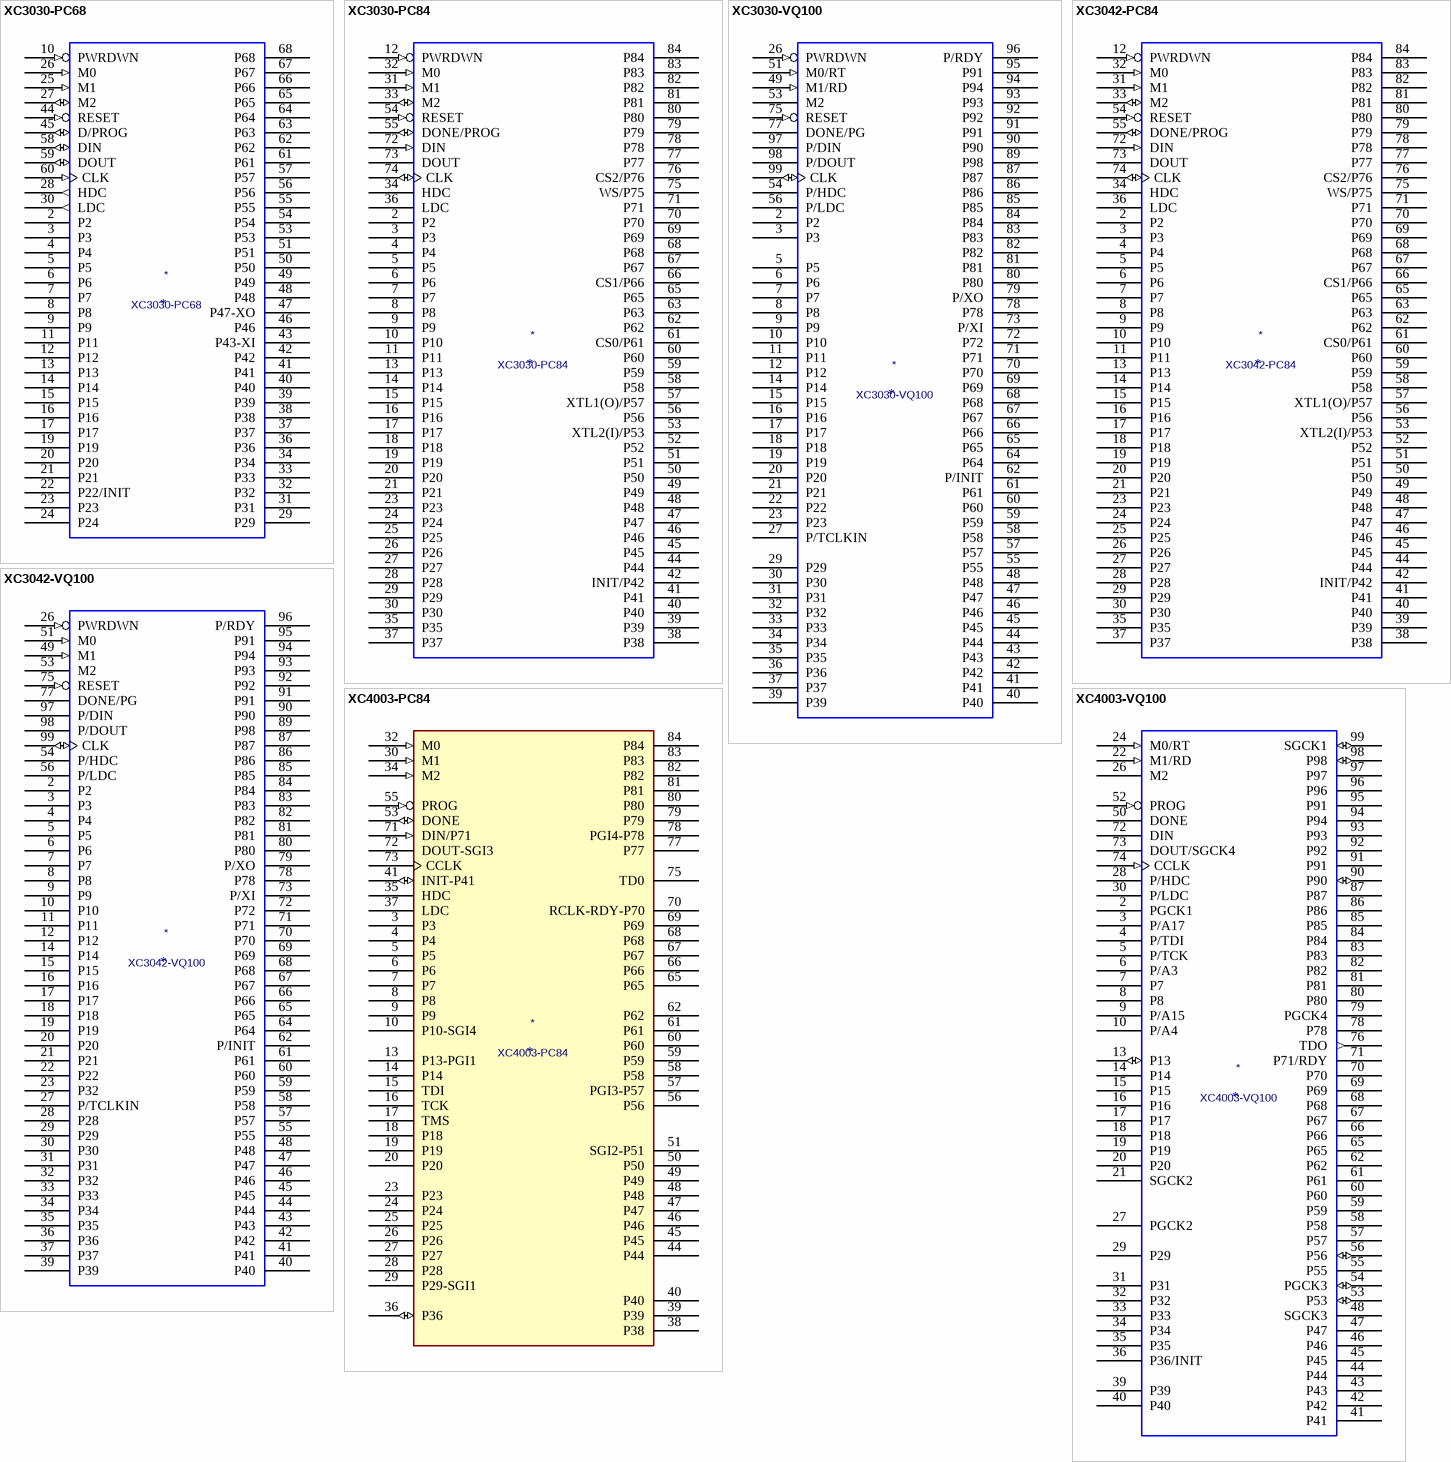
[diagram p9: symbols XC3030-PC68 to XC4003-VQ100]

## XC3030-PC68
designator *  value XC3030-PC68
pins: 1 GND (power) hidden, 2 P2, 3 P3, 4 P4, 5 P5, 6 P6, 7 P7, 8 P8, 9 P9, 10 PWRDWN (in), 11 P11, 12 P12, 13 P13, 14 P14, 15 P15, 16 P16, 17 P17, 18 VCC (power) hidden, 19 P19, 20 P20, 21 P21, 22 P22/INIT, 23 P23, 24 P24, 25 M1 (in), 26 M0 (in), 27 M2 (io), 28 HDC (out), 29 P29, 30 LDC (out), 31 P31, 32 P32, 33 P33, 34 P34, 35 GND (power) hidden, 36 P36, 37 P37, 38 P38, 39 P39, 40 P40, 41 P41, 42 P42, 43 P43-XI, 44 RESET (in), 45 D/PROG (io), 46 P46, 47 P47-XO, 48 P48, 49 P49, 50 P50, 51 P51, 52 VCC (power) hidden, 53 P53, 54 P54, 55 P55, 56 P56, 57 P57, 58 DIN (io), 59 DOUT (io), 60 CLK (in), 61 P61, 62 P62, 63 P63, 64 P64, 65 P65, 66 P66, 67 P67, 68 P68

## XC3030-PC84
designator *  value XC3030-PC84
pins: 1 GND (power) hidden, 2 P2, 3 P3, 4 P4, 5 P5, 6 P6, 7 P7, 8 P8, 9 P9, 10 P10, 11 P11, 12 PWRDWN (in), 13 P13, 14 P14, 15 P15, 16 P16, 17 P17, 18 P18, 19 P19, 20 P20, 21 P21, 22 VCC (power) hidden, 23 P23, 24 P24, 25 P25, 26 P26, 27 P27, 28 P28, 29 P29, 30 P30, 31 M1 (in), 32 M0 (in), 33 M2 (io), 34 HDC, 35 P35, 36 LDC, 37 P37, 38 P38, 39 P39, 40 P40, 41 P41, 42 INIT/P42, 43 GND (power) hidden, 44 P44, 45 P45, 46 P46, 47 P47, 48 P48, 49 P49, 50 P50, 51 P51, 52 P52, 53 XTL2(I)/P53, 54 RESET (in), 55 DONE/PROG (io), 56 P56, 57 XTL1(O)/P57, 58 P58, 59 P59, 60 P60, 61 CS0/P61, 62 P62, 63 P63, 64 VCC (power) hidden, 65 P65, 66 CS1/P66, 67 P67, 68 P68, 69 P69, 70 P70, 71 P71, 72 DIN (in), 73 DOUT, 74 CLK (io), 75 WS/P75, 76 CS2/P76, 77 P77, 78 P78, 79 P79, 80 P80, 81 P81, 82 P82, 83 P83, 84 P84

## XC3030-VQ100
designator *  value XC3030-VQ100
pins: 1 GND (power) hidden, 2 P2, 3 P3, 5 P5, 6 P6, 7 P7, 8 P8, 9 P9, 10 P10, 11 P11, 12 P12, 13 GND (power) hidden, 14 P14, 15 P15, 16 P16, 17 P17, 18 P18, 19 P19, 20 P20, 21 P21, 22 P22, 23 P23, 24 VCC (power) hidden, 25 GND (power) hidden, 26 PWRDWN (in), 27 P/TCLKIN, 29 P29, 30 P30, 31 P31, 32 P32, 33 P33, 34 P34, 35 P35, 36 P36, 37 P37, 38 VCC (power) hidden, 39 P39, 40 P40, 41 P41, 42 P42, 43 P43, 44 P44, 45 P45, 46 P46, 47 P47, 48 P48, 49 M1/RD (in), 50 GND (power) hidden, 51 M0/RT (in), 52 VCC (power) hidden, 53 M2, 54 P/HDC, 55 P55, 56 P/LDC, 57 P57, 58 P58, 59 P59, 60 P60, 61 P61, 62 P/INIT, 63 GND (power) hidden, 64 P64, 65 P65, 66 P66, 67 P67, 68 P68, 69 P69, 70 P70, 71 P71, 72 P72, 73 P/XI, 74 GND (power) hidden, 75 RESET (in), 76 VCC (power) hidden, 77 DONE/PG (oc), 78 P78, 79 P/XO, 80 P80, 81 P81, 82 P82, 83 P83, 84 P84, 85 P85, 86 P86, 87 P87, 88 VCC (power) hidden, 89 P98, 90 P90, 91 P91, 92 P92, 93 P93, 94 P94, 95 P91, 96 P/RDY, 97 P/DIN, 98 P/DOUT, 99 CLK (io), 100 VCC (power) hidden

## XC3042-PC84
designator *  value XC3042-PC84
pins: 1 GND (power) hidden, 2 P2, 3 P3, 4 P4, 5 P5, 6 P6, 7 P7, 8 P8, 9 P9, 10 P10, 11 P11, 12 PWRDWN (in), 13 P13, 14 P14, 15 P15, 16 P16, 17 P17, 18 P18, 19 P19, 20 P20, 21 P21, 22 VCC (power) hidden, 23 P23, 24 P24, 25 P25, 26 P26, 27 P27, 28 P28, 29 P29, 30 P30, 31 M1 (in), 32 M0 (in), 33 M2 (io), 34 HDC, 35 P35, 36 LDC, 37 P37, 38 P38, 39 P39, 40 P40, 41 P41, 42 INIT/P42, 43 GND (power) hidden, 44 P44, 45 P45, 46 P46, 47 P47, 48 P48, 49 P49, 50 P50, 51 P51, 52 P52, 53 XTL2(I)/P53, 54 RESET (in), 55 DONE/PROG (io), 56 P56, 57 XTL1(O)/P57, 58 P58, 59 P59, 60 P60, 61 CS0/P61, 62 P62, 63 P63, 64 VCC (power) hidden, 65 P65, 66 CS1/P66, 67 P67, 68 P68, 69 P69, 70 P70, 71 P71, 72 DIN (in), 73 DOUT, 74 CLK (io), 75 WS/P75, 76 CS2/P76, 77 P77, 78 P78, 79 P79, 80 P80, 81 P81, 82 P82, 83 P83, 84 P84

## XC3042-VQ100
designator *  value XC3042-VQ100
pins: 1 GND (power) hidden, 2 P2, 3 P3, 4 P4, 5 P5, 6 P6, 7 P7, 8 P8, 9 P9, 10 P10, 11 P11, 12 P12, 13 GND (power) hidden, 14 P14, 15 P15, 16 P16, 17 P17, 18 P18, 19 P19, 20 P20, 21 P21, 22 P22, 23 P32, 24 VCC (power) hidden, 25 GND (power) hidden, 26 PWRDWN (in), 27 P/TCLKIN, 28 P28, 29 P29, 30 P30, 31 P31, 32 P32, 33 P33, 34 P34, 35 P35, 36 P36, 37 P37, 38 VCC (power) hidden, 39 P39, 40 P40, 41 P41, 42 P42, 43 P43, 44 P44, 45 P45, 46 P46, 47 P47, 48 P48, 49 M1 (in), 50 GND (power) hidden, 51 M0 (in), 52 VCC (power) hidden, 53 M2, 54 P/HDC, 55 P55, 56 P/LDC, 57 P57, 58 P58, 59 P59, 60 P60, 61 P61, 62 P/INIT, 63 GND (power) hidden, 64 P64, 65 P65, 66 P66, 67 P67, 68 P68, 69 P69, 70 P70, 71 P71, 72 P72, 73 P/XI, 74 GND (power) hidden, 75 RESET (in), 76 VCC (power) hidden, 77 DONE/PG (oc), 78 P78, 79 P/XO, 80 P80, 81 P81, 82 P82, 83 P83, 84 P84, 85 P85, 86 P86, 87 P87, 88 VCC (power) hidden, 89 P98, 90 P90, 91 P91, 92 P92, 93 P93, 94 P94, 95 P91, 96 P/RDY, 97 P/DIN, 98 P/DOUT, 99 CLK (io), 100 VCC (power) hidden

## XC4003-PC84
designator *  value XC4003-PC84
pins: 1 GND (power) hidden, 2 VCC (power) hidden, 3 P3, 4 P4, 5 P5, 6 P6, 7 P7, 8 P8, 9 P9, 10 P10-SGI4, 11 VCC (power) hidden, 12 GND (power) hidden, 13 P13-PGI1, 14 P14, 15 TDI, 16 TCK, 17 TMS, 18 P18, 19 P19, 20 P20, 21 GND (power) hidden, 23 P23, 24 P24, 25 P25, 26 P26, 27 P27, 28 P28, 29 P29-SGI1, 30 M1 (in), 31 GND (power) hidden, 32 M0 (in), 33 VCC (power) hidden, 34 M2 (in), 35 HDC, 36 P36 (io), 37 LDC, 38 P38, 39 P39, 40 P40, 41 INIT-P41 (io), 42 VCC (power) hidden, 43 GND (power) hidden, 44 P44, 45 P45, 46 P46, 47 P47, 48 P48, 49 P49, 50 P50, 51 SGI2-P51, 52 GND (power) hidden, 53 DONE (io), 54 VCC (power) hidden, 55 PROG (in), 56 P56, 57 PGI3-P57, 58 P58, 59 P59, 60 P60, 61 P61, 62 P62, 64 GND (power) hidden, 65 P65, 66 P66, 67 P67, 68 P68, 69 P69, 70 RCLK-RDY-P70, 71 DIN/P71 (in), 72 DOUT-SGI3, 73 CCLK, 74 VCC (power) hidden, 75 TD0, 76 GND (power) hidden, 77 P77, 78 PGI4-P78, 79 P79, 80 P80, 81 P81, 82 P82, 83 P83, 84 P84

## XC4003-VQ100
designator *  value XC4003-VQ100
Supplier: xilinx/xc400x-pinout.pdf
pins: 1 GND (power) hidden, 2 PGCK1, 3 P/A17, 4 P/TDI, 5 P/TCK, 6 P/A3, 7 P7, 8 P8, 9 P/A15, 10 P/A4, 11 GND (power) hidden, 12 VCC (power) hidden, 13 P13 (io), 14 P14, 15 P15, 16 P16, 17 P17, 18 P18, 19 P19, 20 P20, 21 SGCK2, 22 M1/RD (in), 23 GND (power) hidden, 24 M0/RT (in), 25 VCC (power) hidden, 26 M2, 27 PGCK2, 28 P/HDC, 29 P29, 30 P/LDC, 31 P31, 32 P32, 33 P33, 34 P34, 35 P35, 36 P36/INIT, 37 VCC (power) hidden, 38 GND (power) hidden, 39 P39, 40 P40, 41 P41, 42 P42, 43 P43, 44 P44, 45 P45, 46 P46, 47 P47, 48 SGCK3, 49 GND (power) hidden, 50 DONE (oc), 51 VCC (power) hidden, 52 PROG (in), 53 P53 (io), 54 PGCK3 (io), 55 P55, 56 P56 (io), 57 P57, 58 P58, 59 P59, 60 P60, 61 P61, 62 P62, 63 VCC (power) hidden, 64 GND (power) hidden, 65 P65, 66 P66, 67 P67, 68 P68, 69 P69, 70 P70, 71 P71/RDY, 72 DIN, 73 DOUT/SGCK4, 74 CCLK (in), 75 VCC (power) hidden, 76 TDO (out), 77 GND (power) hidden, 78 P78, 79 PGCK4, 80 P80, 81 P81, 82 P82, 83 P83, 84 P84, 85 P85, 86 P86, 87 P87, 88 GND (power) hidden, 89 VCC (power) hidden, 90 P90 (io), 91 P91, 92 P92, 93 P93, 94 P94, 95 P91, 96 P96, 97 P97, 98 P98 (io), 99 SGCK1 (io), 100 VCC (power) hidden

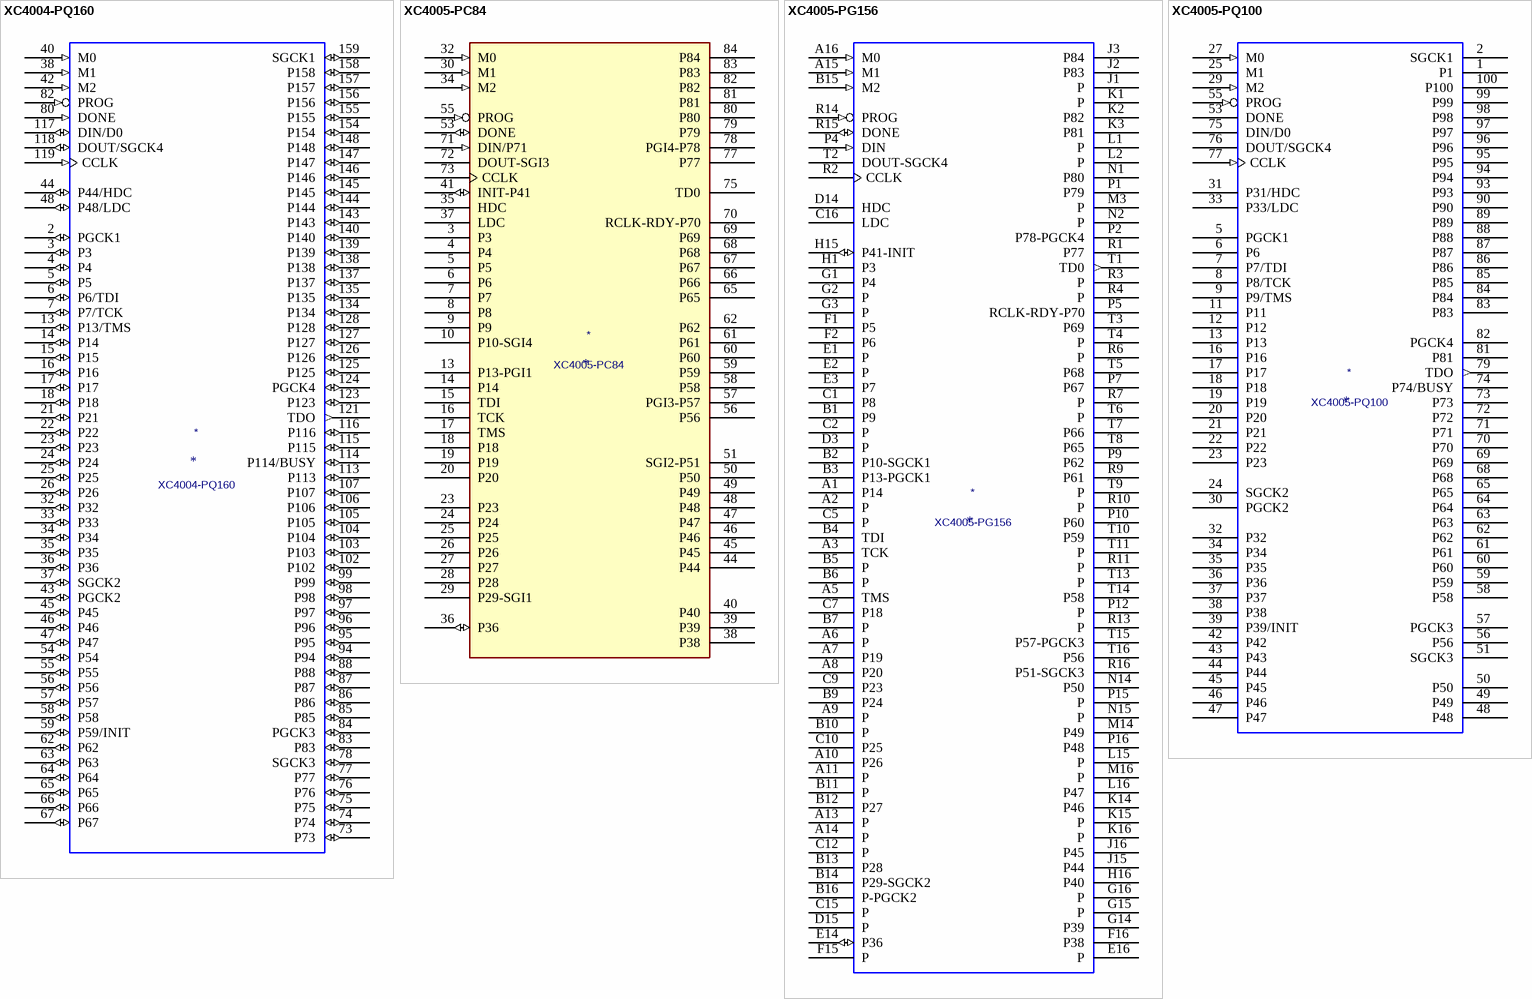
[diagram p10: symbols XC4004-PQ160 to XC4005-PQ100]

## XC4004-PQ160
designator *  value XC4004-PQ160
pins: 1 GND (power) hidden, 2 PGCK1 (io), 3 P3 (io), 4 P4 (io), 5 P5 (io), 6 P6/TDI (io), 7 P7/TCK (io), 10 GND (power) hidden, 13 P13/TMS (io), 14 P14 (io), 15 P15 (io), 16 P16 (io), 17 P17 (io), 18 P18 (io), 19 GND (power) hidden, 20 VCC (power) hidden, 21 P21 (io), 22 P22 (io), 23 P23 (io), 24 P24 (io), 25 P25 (io), 26 P26 (io), 29 GND (power) hidden, 32 P32 (io), 33 P33 (io), 34 P34 (io), 35 P35 (io), 36 P36 (io), 37 SGCK2 (io), 38 M1 (in), 39 GND (power) hidden, 40 M0 (in), 41 VCC (power) hidden, 42 M2 (in), 43 PGCK2 (io), 44 P44/HDC (io), 45 P45 (io), 46 P46 (io), 47 P47 (io), 48 P48/LDC (io), 51 GND (power) hidden, 54 P54 (io), 55 P55 (io), 56 P56 (io), 57 P57 (io), 58 P58 (io), 59 P59/INIT (io), 60 VCC (power) hidden, 61 GND (power) hidden, 62 P62 (io), 63 P63 (io), 64 P64 (io), 65 P65 (io), 66 P66 (io), 67 P67 (io), 70 GND (power) hidden, 73 P73 (io), 74 P74 (io), 75 P75 (io), 76 P76 (io), 77 P77 (io), 78 SGCK3 (io), 79 GND (power) hidden, 80 DONE (in), 81 VCC (power) hidden, 82 PROG (in), 83 P83 (io), 84 PGCK3 (io), 85 P85 (io), 86 P86 (io), 87 P87 (io), 88 P88 (io), 91 GND (power) hidden, 94 P94 (io), 95 P95 (io), 96 P96 (io), 97 P97 (io), 98 P98 (io), 99 P99 (io), 100 VCC (power) hidden, 101 GND (power) hidden, 102 P102 (io), 103 P103 (io), 104 P104 (io), 105 P105 (io), 106 P106 (io), 107 P107 (io), 110 GND (power) hidden, 113 P113 (io), 114 P114/BUSY (io), 115 P115 (io), 116 P116 (io), 117 DIN/D0 (io), 118 DOUT/SGCK4 (io), 119 CCLK (in), 120 VCC (power) hidden, 121 TDO (out), 122 GND (power) hidden, 123 P123 (io), 124 PGCK4 (io), 125 P125 (io), 126 P126 (io), 127 P127 (io), 128 P128 (io), 131 GND (power) hidden, 134 P134 (io), 135 P135 (io), 137 P137 (io), 138 P138 (io), 139 P139 (io), 140 P140 (io), 141 GND (power) hidden, 142 VCC (power) hidden, 143 P143 (io), 144 P144 (io), 145 P145 (io), 146 P146 (io), 147 P147 (io), 148 P148 (io), 151 GND (power) hidden, 154 P154 (io), 155 P155 (io), 156 P156 (io), 157 P157 (io), 158 P158 (io), 159 SGCK1 (io), 160 VCC (power) hidden

## XC4005-PC84
designator *  value XC4005-PC84
pins: 1 GND (power) hidden, 2 VCC (power) hidden, 3 P3, 4 P4, 5 P5, 6 P6, 7 P7, 8 P8, 9 P9, 10 P10-SGI4, 11 VCC (power) hidden, 12 GND (power) hidden, 13 P13-PGI1, 14 P14, 15 TDI, 16 TCK, 17 TMS, 18 P18, 19 P19, 20 P20, 21 GND (power) hidden, 23 P23, 24 P24, 25 P25, 26 P26, 27 P27, 28 P28, 29 P29-SGI1, 30 M1 (in), 31 GND (power) hidden, 32 M0 (in), 33 VCC (power) hidden, 34 M2 (in), 35 HDC, 36 P36 (io), 37 LDC, 38 P38, 39 P39, 40 P40, 41 INIT-P41 (io), 42 VCC (power) hidden, 43 GND (power) hidden, 44 P44, 45 P45, 46 P46, 47 P47, 48 P48, 49 P49, 50 P50, 51 SGI2-P51, 52 GND (power) hidden, 53 DONE (io), 54 VCC (power) hidden, 55 PROG (in), 56 P56, 57 PGI3-P57, 58 P58, 59 P59, 60 P60, 61 P61, 62 P62, 64 GND (power) hidden, 65 P65, 66 P66, 67 P67, 68 P68, 69 P69, 70 RCLK-RDY-P70, 71 DIN/P71 (in), 72 DOUT-SGI3, 73 CCLK, 74 VCC (power) hidden, 75 TD0, 76 GND (power) hidden, 77 P77, 78 PGI4-P78, 79 P79, 80 P80, 81 P81, 82 P82, 83 P83, 84 P84

## XC4005-PG156
designator *  value XC4005-PG156
pins: A1 P14, A2 P, A3 TCK, A5 TMS, A6 P, A7 P19, A8 P20, A9 P, A10 P26, A11 P, A13 P, A14 P, A15 M1 (in), A16 M0 (in), B1 P9, B2 P10-SGCK1, B3 P13-PGCK1, B4 TDI, B5 P, B6 P, B7 P, B8 VCC (power) hidden, B9 P24, B10 P, B11 P, B12 P27, B13 P28, B14 P29-SGCK2, B15 M2 (in), B16 P-PGCK2, C1 P8, C2 P, C3 VCC (power) hidden, C4 GND (power) hidden, C5 P, C6 GND (power) hidden, C7 P18, C8 GND (power) hidden, C9 P23, C10 P25, C11 GND (power) hidden, C12 P, C13 GND (power) hidden, C14 VCC (power) hidden, C15 P, C16 LDC, D3 P, D14 HDC, D15 P, E1 P, E2 P, E3 P7, E14 P36 (io), E16 P, F1 P5, F2 P6, F3 GND (power) hidden, F14 GND (power) hidden, F15 P, F16 P38, G1 P4, G2 P, G3 P, G14 P39, G15 P, G16 P, H1 P3, H2 GND (power) hidden, H3 VCC (power) hidden, H14 VCC (power) hidden, H15 P41-INIT (io), H16 P40, J1 P, J2 P83, J3 P84, J14 GND (power) hidden, J15 P44, J16 P45, K1 P, K2 P82, K3 P81, K14 P46, K15 P, K16 P, L1 P, L2 P, L3 GND (power) hidden, L14 GND (power) hidden, L15 P, L16 P47, M3 P, M14 P49, M16 P, N1 P80, N2 P, N3 GND (power) hidden, N14 P50, N15 P, P1 P79, P2 P78-PGCK4, P3 VCC (power) hidden, P4 DIN (in), P5 RCLK-RDY-P70, P6 GND (power) hidden, P7 P67, P8 GND (power) hidden, P9 P62, P10 P60, P11 GND (power) hidden, P12 P, P13 VCC (power) hidden, P14 GND (power) hidden, P15 P, P16 P48, R1 P77, R2 CCLK, R3 P, R4 P, R6 P, R7 P, R8 VCC (power) hidden, R9 P61, R10 P, R11 P, R13 P, R14 PROG (in), R15 DONE (io), R16 P51-SGCK3, T1 TD0 (out), T2 DOUT-SGCK4, T3 P69, T4 P, T5 P68, T6 P, T7 P66, T8 P65, T9 P, T10 P59, T11 P, T13 P, T14 P58, T15 P57-PGCK3, T16 P56

## XC4005-PQ100
designator *  value XC4005-PQ100
pins: 1 P1, 2 SGCK1, 3 VCC (power) hidden, 4 GND (power) hidden, 5 PGCK1, 6 P6, 7 P7/TDI, 8 P8/TCK, 9 P9/TMS, 11 P11, 12 P12, 13 P13, 14 GND (power) hidden, 15 VCC (power) hidden, 16 P16, 17 P17, 18 P18, 19 P19, 20 P20, 21 P21, 22 P22, 23 P23, 24 SGCK2, 25 M1, 26 GND (power) hidden, 27 M0 (in), 28 VCC (power) hidden, 29 M2 (in), 30 PGCK2, 31 P31/HDC, 32 P32, 33 P33/LDC, 34 P34, 35 P35, 36 P36, 37 P37, 38 P38, 39 P39/INIT, 40 VCC (power) hidden, 41 GND (power) hidden, 42 P42, 43 P43, 44 P44, 45 P45, 46 P46, 47 P47, 48 P48, 49 P49, 50 P50, 51 SGCK3, 52 GND (power) hidden, 53 DONE (oc), 54 VCC (power) hidden, 55 PROG (in), 56 P56, 57 PGCK3, 58 P58, 59 P59, 60 P60, 61 P61, 62 P62, 63 P63, 64 P64, 65 P65, 66 VCC (power) hidden, 67 GND (power) hidden, 68 P68, 69 P69, 70 P70, 71 P71, 72 P72, 73 P73, 74 P74/BUSY, 75 DIN/D0, 76 DOUT/SGCK4, 77 CCLK (in), 78 VCC (power) hidden, 79 TDO (out), 80 GND (power) hidden, 81 P81, 82 PGCK4, 83 P83, 84 P84, 85 P85, 86 P86, 87 P87, 88 P88, 89 P89, 90 P90, 91 GND (power) hidden, 92 VCC (power) hidden, 93 P93, 94 P94, 95 P95, 96 P96, 97 P97, 98 P98, 99 P99, 100 P100

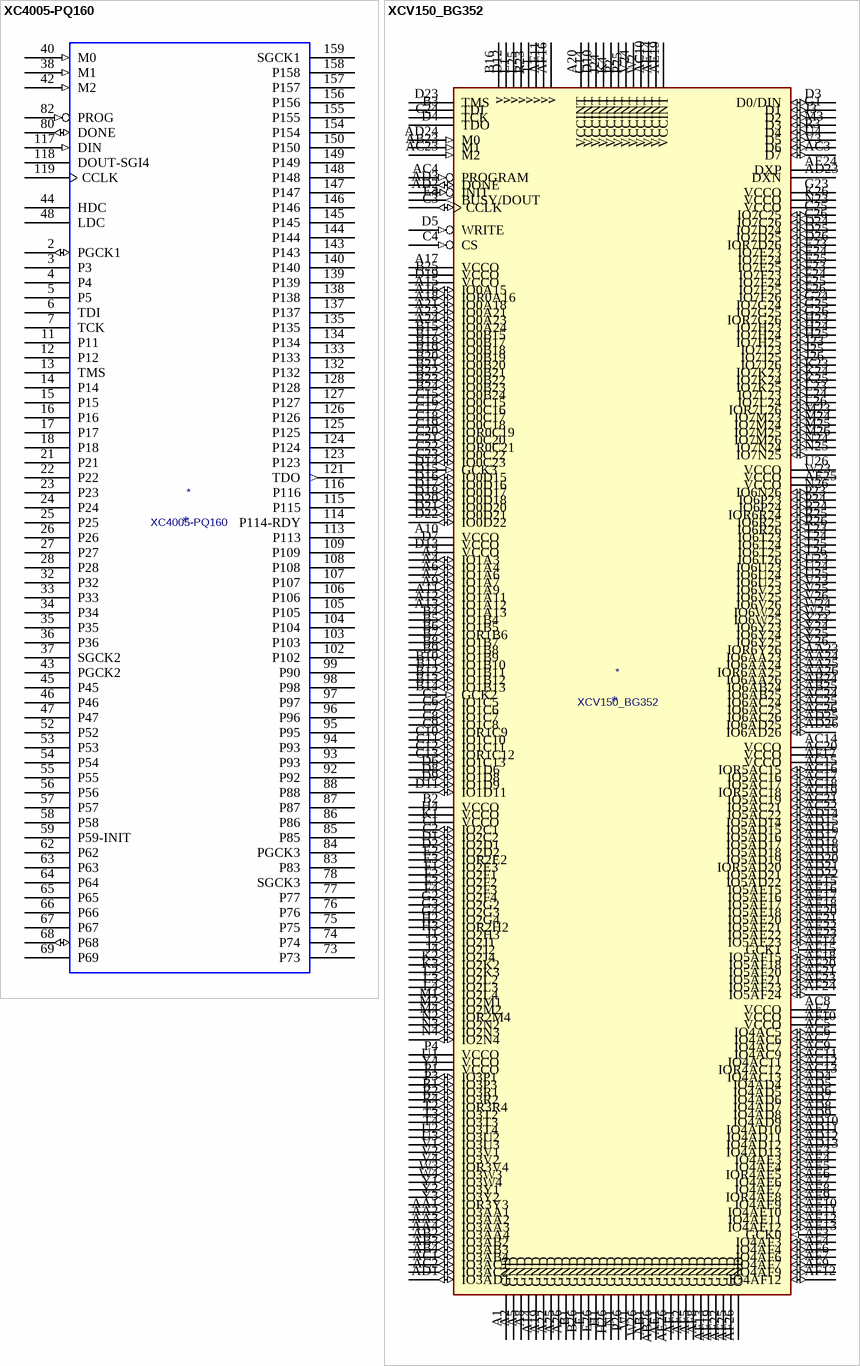
[diagram p11: symbols XC4005-PQ160 to XCV150_BG352]

## XC4005-PQ160
designator *  value XC4005-PQ160
pins: 1 GND (power) hidden, 2 PGCK1 (io), 3 P3, 4 P4, 5 P5, 6 TDI, 7 TCK, 10 GND (power) hidden, 11 P11, 12 P12, 13 TMS, 14 P14, 15 P15, 16 P16, 17 P17, 18 P18, 19 GND (power) hidden, 20 VCC (power) hidden, 21 P21, 22 P22, 23 P23, 24 P24, 25 P25, 26 P26, 27 P27, 28 P28, 29 GND (power) hidden, 32 P32, 33 P33, 34 P34, 35 P35, 36 P36, 37 SGCK2, 38 M1 (in), 39 GND (power) hidden, 40 M0 (in), 41 VCC (power) hidden, 42 M2 (in), 43 PGCK2, 44 HDC, 45 P45, 46 P46, 47 P47, 48 LDC, 51 GND (power) hidden, 52 P52, 53 P53, 54 P54, 55 P55, 56 P56, 57 P57, 58 P58, 59 P59-INIT, 60 VCC (power) hidden, 61 GND (power) hidden, 62 P62, 63 P63, 64 P64, 65 P65, 66 P66, 67 P67, 68 P68 (io), 69 P69, 70 GND (power) hidden, 73 P73, 74 P74, 75 P75, 76 P76, 77 P77, 78 SGCK3, 79 GND (power) hidden, 80 DONE (io), 81 VCC (power) hidden, 82 PROG (in), 83 P83, 84 PGCK3, 85 P85, 86 P86, 87 P87, 88 P88, 91 GND (power) hidden, 92 P92, 93 P93, 94 P93, 95 P95, 96 P96, 97 P97, 98 P98, 99 P90, 100 VCC (power) hidden, 101 GND (power) hidden, 102 P102, 103 P103, 104 P104, 105 P105, 106 P106, 107 P107, 108 P108, 109 P109, 110 GND (power) hidden, 113 P113, 114 P114-RDY, 115 P115, 116 P116, 117 DIN (in), 118 DOUT-SGI4, 119 CCLK, 120 VCC (power) hidden, 121 TDO (out), 122 GND (power) hidden, 123 P123, 124 P124, 125 P125, 126 P126, 127 P127, 128 P128, 131 GND (power) hidden, 132 P132, 133 P133, 134 P134, 135 P135, 137 P137, 138 P138, 139 P139, 140 P140, 141 GND (power) hidden, 142 VCC (power) hidden, 143 P143, 144 P144, 145 P145, 146 P146, 147 P147, 148 P148, 149 P149, 150 P150, 151 GND (power) hidden, 154 P154, 155 P155, 156 P156, 157 P157, 158 P158, 159 SGCK1, 160 VCC (power) hidden

## XCV150_BG352
designator *  value XCV150_BG352
ki_keywords: field programmable gate array; ki_description: Virtex FPGA; Supplier: https://www.xilinx.com/support/documentation/data_sheets/ds003.pdf
pins: A1 GND (power), A2 GND (power), A3 IO1A3 (io), A4 IO1A4 (io), A5 GND (power), A6 IO1A6 (io), A7 IO1A7 (io), A8 GND (power), A9 IO1A9 (io), A10 VCCO (power), A11 IO1A11 (io), A12 IO1A12 (io), A13 IO1A13 (io), A14 GND (power), A15 IO0A15 (io), A16 IOR0A16 (io), A17 VCCO (power), A18 IO0A18 (io), A19 GND (power), A20 VCCINT (power), A21 IO0A21 (io), A22 GND (power), A23 IO0A23 (io), A24 IO0A24 (io), A25 GND (power), A26 GND (power), AA1 IO3AA1 (io), AA2 IO3AA2 (io), AA3 IO3AA3 (io), AA4 IO3AA4 (io), AA23 IO6AA23 (io), AA24 IO6AA24 (io), AA25 IOR6AA25 (io), AA26 IO6AA26 (io), AB1 GND (power), AB2 IO3AB2 (io), AB3 IO3AB3 (io), AB4 IO3AB4 (io), AB23 M1 (in), AB24 IO6AB24 (io), AB25 IO6AB25 (io), AB26 GND (power), AC1 IO3AC1 (io), AC2 IO3AC2 (io), AC3 D7 (io), AC4 PROGRAM (in), AC5 IO4AC5 (io), AC6 IO4AC6 (io), AC7 IO4AC7 (io), AC8 VCCO (power), AC9 IO4AC9 (io), AC10 VCCINT (power), AC11 IO4AC11 (io), AC12 IOR4AC12 (io), AC13 IO4AC13 (io), AC14 VCCO (power), AC15 IOR5AC15 (io), AC16 IO5AC16 (io), AC17 IO5AC17 (io), AC18 IOR5AC18 (io), AC19 IO5AC19 (io), AC20 VCCO (power), AC21 IO5AC21 (io), AC22 IO5AC22 (io), AC23 M2 (in), AC24 IO6AC24 (io), AC25 IO6AC25 (io), AC26 IO6AC26 (io), AD1 IO3AD1 (io), AD2 INIT (io), AD3 DONE (io), AD4 IO4AD4 (io), AD5 IO4AD5 (io), AD6 IO4AD6 (io), AD7 IO4AD7 (io), AD8 IO4AD8 (io), AD9 IO4AD9 (io), AD10 IO4AD10 (io), AD11 IO4AD11 (io), AD12 IO4AD12 (io), AD13 IO4AD13 (io), AD14 IO5AD14 (io), AD15 IO5AD15 (io), AD16 IO5AD16 (io), AD17 IO5AD17 (io), AD18 IO5AD18 (io), AD19 IO5AD19 (io), AD20 IOR5AD20 (io), AD21 IO5AD21 (io), AD22 IO5AD22 (io), AD23 DXN, AD24 M0 (in), AD25 IO6AD25 (io), AD26 IO6AD26 (io), AE1 GND (power), AE2 VCCO (power), AE3 IO4AE3 (io), AE4 IO4AE4 (io), AE5 IOR4AE5 (io), AE6 IO4AE6 (io), AE7 IO4AE7 (io), AE8 IOR4AE8 (io), AE9 IO4AE9 (io), AE10 IO4AE10 (io), AE11 IO4AE11 (io), AE12 IO4AE12 (io), AE13 GCK0 (in), AE14 VCCINT (power), AE15 IO5AE15 (io), AE16 IO5AE16 (io), AE17 IO5AE17 (io), AE18 IO5AE18 (io), AE19 VCCINT (power), AE20 IO5AE20 (io), AE21 IO5AE21 (io), AE22 IO5AE22 (io), AE23 IO5AE23 (io), AE24 DXP, AE25 VCCO (power), AE26 GND (power), AF1 GND (power), AF2 GND (power), AF3 IO4AF3 (io), AF4 IO4AF4 (io), AF5 GND (power), AF6 IO4AF6 (io), AF7 IO4AF7 (io), AF8 GND (power), AF9 IO4AF9 (io), AF10 VCCO (power), AF11 v, AF12 IO4AF12 (io), AF13 GND (power), AF14 GCK1 (in), AF15 IO5AF15 (io), AF16 v, AF17 VCCO (power), AF18 IO5AF18 (io), AF19 GND (power), AF20 IO5AF20 (io), AF21 IO5AF21 (io), AF22 GND (power), AF23 IO5AF23 (io), AF24 IO5AF24 (io), AF25 GND (power), AF26 GND (power), B1 GND (power), B2 VCCO (power), B3 TDI, B4 IO1B4 (io), B5 IO1B5 (io), B6 IOR1B6 (io), B7 IO1B7 (io), B8 IO1B8 (io), B9 IO1B9 (io), B10 IO1B10 (io), B11 IO1B11 (io), B12 IO1B12 (io), B13 IO1B13 (io), B14 GCK2 (in), B15 IO0B15 (io), B16 v, B17 IO0B17 (io), B18 IO0B18 (io), B19 IO0B19 (io), B20 IO0B20 (io), B21 IO0B21 (io), B22 IO0B22 (io), B23 IO0B23 (io), B24 IO0B24 (io), B25 VCCO (power), B26 GND (power), C1 IO2C1 (io), C2 IO2C2 (io), C3 CCLK (io), C4 CS (in), C5 IO1C5 (io), C6 IO1C6 (io), C7 IO1C7 (io), C8 IO1C8 (io), C9 IOR1C9 (io), C10 IO1C10 (io), C11 IO1C11 (io), C12 IOR1C12 (io), C13 IO1C13 (io), C14 VCCINT (power), C15 IO0C15 (io), C16 IO0C16 (io), C17 IO0C17 (io), C18 IO0C18 (io), C19 IOR0C19 (io), C20 IO0C20 (io), C21 IOR0C21 (io), C22 IO0C22 (io), C23 IO0C23 (io), C24 TCK, C25 IO7C25 (io), C26 IO7C26 (io), D1 IO2D1 (io), D2 IO2D2 (io), D3 D0/DIN (io), D4 TDO, D5 WRITE (in), D6 IO1D6 (io), D7 VCCO (power), D8 IO1D8 (io), D9 IO1D9 (io), D10 VCCINT (power), D11 IO1D11 (io), D12 v, D13 VCCO (power), D14 GCK3 (in), D15 IO0D15 (io), D16 IO0D16 (io), D17 IO0D17 (io), D18 IO0D18 (io), D19 VCCO (power), D20 IO0D20 (io), D21 IO0D21 (io), D22 IO0D22 (io), D23 TMS, D24 IO7D24 (io), D25 IO7D25 (io), D26 IOR7D26 (io), E1 GND (power), E2 IOR2E2 (io), E3 IO2E3 (io), E4 BUSY/DOUT (out), E23 IO7E23 (io), E24 IO7E24 (io), E25 IO7E25 (io), E26 GND (power), F1 IO2F1 (io), F2 IO2F2 (io), F3 IO2F3 (io), F4 IO2F4 (io), F23 IO7F23 (io), F24 IO7F24 (io), F25 IO7F25 (io), F26 IO7F26 (io), G1 D1 (io), G2 IO2G2 (io), G3 IO2G3 (io), G4 IO2G4 (io), G23 VCCO (power), G24 IO7G24 (io), G25 IO7G25 (io), G26 IOR7G26 (io), H1 GND (power), H2 IOR2H2 (io), H3 IO2H3 (io), H4 VCCO (power), H23 IO7H23 (io), H24 IO7H24 (io), H25 IO7H25 (io), H26 GND (power), J1 IO2J1 (io), J2 IO2J2 (io), J3 D2 (io), J4 IO2J4 (io), J23 IO7J23 (io), J24 VCCINT (power), J25 IO7J25 (io), J26 IO7J26 (io), K1 VCCO (power), K2 IO2K2 (io), K3 IO2K3 (io), K4 VCCINT (power), K23 IO7K23 (io), K24 IO7K24 (io), K25 IO7K25 (io), K26 VCCO (power), L1 v, L2 IO2L2 (io), L3 IO2L3 (io), L4 IO2L4 (io), L23 IO7L23 (io), L24 IO7L24 (io), L25 v, L26 IOR7L26 (io), M1 IO2M1 (io), M2 IO2M2 (io), M3 D3 (io), M4 IOR2M4 (io), M23 IO7M23 (io), M24 IO7M24 (io), M25 IO7M25 (io), M26 IO7M26 (io), N1 GND (power), N2 IO2N2 (io), N3 IO2N3 (io), N4 IO2N4 (io), N23 VCCO (power), N24 IO7N24 (io), N25 IO7N25 (io), N26 IO6N26 (io), P1 IO3P1 (io), P2 VCCINT (power), P3 IO3P3 (io), P4 VCCO (power), P23 IO6P23 (io), P24 IO6P24 (io), P25 VCCINT (power), P26 GND (power), R1 IO3R1 (io), R2 IO3R2 (io), R3 D4 (io), R4 IOR3R4 (io), R23 v, R24 IOR6R24 (io), R25 IO6R25 (io), R26 IO6R26 (io), T1 v, T2 IO3T2 (io), T3 IO3T3 (io), T4 IO3T4 (io), T23 IO6T23 (io), T24 IO6T24 (io), T25 IO6T25 (io), T26 IO6T26 (io), U1 VCCO (power), U2 IO3U2 (io), U3 IO3U3 (io), U4 D5 (io), U23 IO6U23 (io), U24 IO6U24 (io), U25 IO6U25 (io), U26 VCCO (power), V1 IO3V1 (io), V2 IO3V2 (io), V3 D6 (io), V4 IOR3V4 (io), V23 IO6V23 (io), V24 VCCINT (power), V25 IO6V25 (io), V26 IO6V26 (io), W1 GND (power), W2 VCCINT (power), W3 IO3W3 (io), W4 IO3W4 (io), W23 VCCO (power), W24 IO6W24 (io), W25 IO6W25 (io), W26 GND (power), Y1 IO3Y1 (io), Y2 IO3Y2 (io), Y3 IOR3Y3 (io), Y4 VCCO (power), Y23 IO6Y23 (io), Y24 IO6Y24 (io), Y25 IO6Y25 (io), Y26 IOR6Y26 (io)